# EAGLE library part LTC3419 (library PowerProducts)
LT-Spice library generated with : ltspice.ulp from: D:/Program Files (x86)/LTC/LTspiceIV/lib/sym/PowerProducts/LTC3423*.asy at 07.10.2012 18:07:52
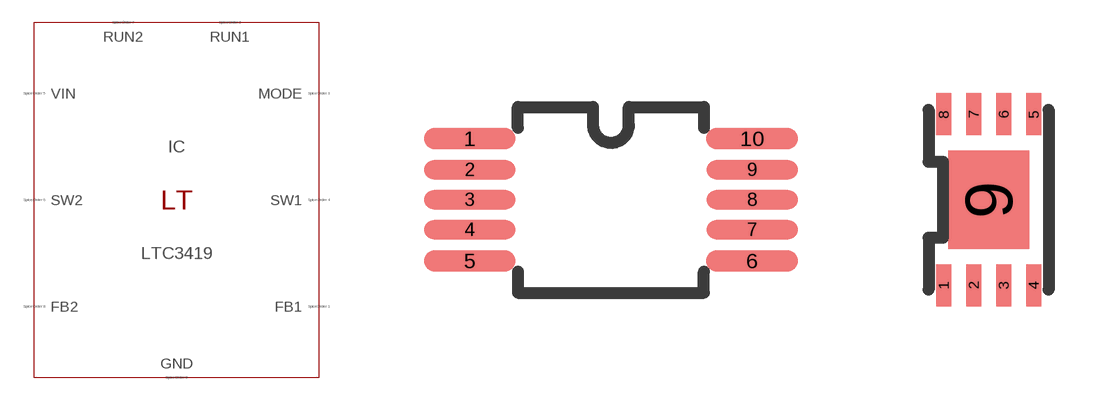
[diagram p180: symbol with the pads of MSOP10(MS); footprints MSOP10(MS), DFN8(DD)]

Designator prefix IC

## LTC3419MS (SPICEMODEL: LTC3419.sub; SPICEPREFIX: X; VALUE2: LTC3419)  [MSOP10(MS)]
1  FB1  pas
2  RUN1  pas
3  MODE  pas
4  SW1  pas
5  GND  pas
6  GND  pas
7  VIN  pas
8  SW2  pas
9  RUN2  pas
10  FB2  pas

## LTC3419 (SPICEMODEL: LTC3419.sub; SPICEPREFIX: X; VALUE2: LTC3419)  [DFN8(DD)]
1  FB1  pas
2  RUN1  pas
3  MODE  pas
4  SW1  pas
5  VIN  pas
6  SW2  pas
7  RUN2  pas
8  FB2  pas
9  GND  pas

## Footprint MSOP10(MS) (pad centres in mm)
Package generated from: MSOP10(MS).asc (!PADS-POWERPCB-V5.0-BASIC! DESIGN DATABASE ASCII FILE 1.0) with :import-pads-powerpcb-v5.ulp Version 1.0.1 at 04.10.2012 14:11:19
smd 2.295 x 0.54: 1 -3.529,1.53; 5 -3.529,-1.53; 6 3.529,-1.53; 10 3.529,1.53
smd 2.295 x 0.48: 2 -3.529,0.75; 3 -3.529,0; 4 -3.529,-0.75; 7 3.529,-0.75; 8 3.529,0; 9 3.529,0.75

## Footprint DFN8(DD) (pad centres in mm)
Package generated from: DFN8(DD).asc (!PADS-POWERPCB-V5.0-BASIC! DESIGN DATABASE ASCII FILE 1.0) with :import-pads-powerpcb-v5.ulp Version 1.0.1 at 04.10.2012 14:11:17
smd 0.375 x 1.05: 1 -1.125,-2.138; 2 -0.375,-2.138; 3 0.375,-2.138; 4 1.125,-2.138; 5 1.125,2.138; 6 0.375,2.138; 7 -0.375,2.138; 8 -1.125,2.138
smd 2.025 x 2.475: 9 0,0